# Altium footprint library SOP300P3000X1143-12N.PcbLib: 1 footprints
Each footprint in its own frame and in the unit in brackets; x right, y up, seen from the top. Pads: shape width x height; smd on the part's side, far side on the other; paste and mask are expansions set on the pad; w line width, h text height; cw(c..) or ccw(c..) is an arc to the next point about the centre after c.
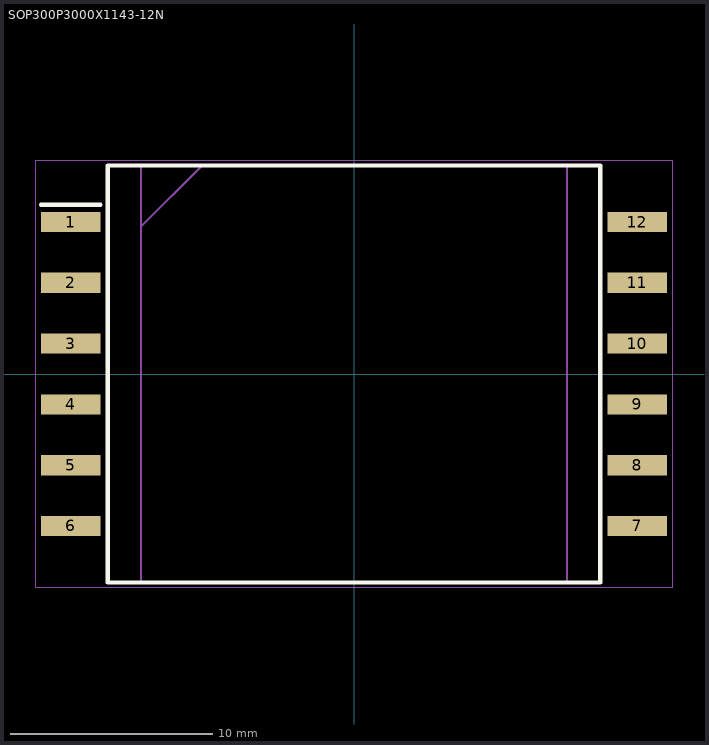
[diagram p0: the footprint, top view; thin cyan lines are the x and y axes]

## SOP300P3000X1143-12N [mm]
pads (12):
  rect 2.95x1 smd: 1(-13.975,7.5) 2(-13.975,4.5) 3(-13.975,1.5) 4(-13.975,-1.5) 5(-13.975,-4.5) 6(-13.975,-7.5) 7(13.975,-7.5) 8(13.975,-4.5) 9(13.975,-1.5) 10(13.975,1.5) 11(13.975,4.5) 12(13.975,7.5)
Top Overlay:
  lines w0.2: -15.45,8.35 -12.5,8.35 ; -12.15,-10.285 12.15,-10.285 12.15,10.285 -12.15,10.285 -12.15,-10.285
Mechanical 15:
  lines w0.1: -10.5,7.285 -7.5,10.285 ; -10.5,-10.285 10.5,-10.285 10.5,10.285 -10.5,10.285 -10.5,-10.285
Mechanical 20:
  lines w0.05: -15.7,-10.535 15.7,-10.535 15.7,10.535 -15.7,10.535 -15.7,-10.535